# EAGLE library part CAT24C32WI-GT3 (library Memory)
IC EEPROM 32K I2C 1MHZ 8SOIC Manufacturer's datasheet <https://www.onsemi.com/pub/Collateral/CAT24C32-D.PDF>
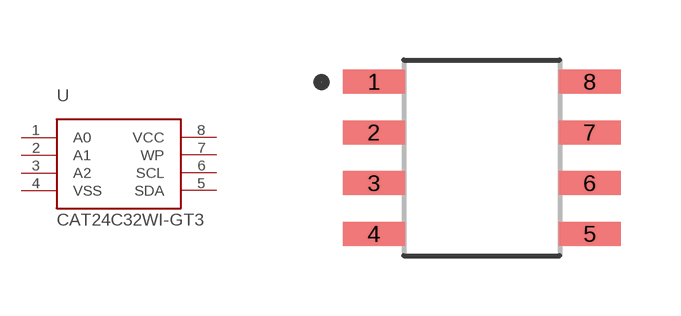
[diagram p11: symbol with the pads of SOIC8; footprint SOIC8]

Designator prefix U

## CAT24C32WI-GT3 (CREATED_BY: PCBLayout.com; DIGIKEY_PART_NUMBER: CAT24C32WI-GT3CT-ND; MANUFACTURER: ON Semiconductor; MPN: CAT24C32WI-GT3; PACKAGE: SOIC-8)  [SOIC8]
1  A0  in
2  A1  in
3  A2  in
4  VSS  pwr
5  SDA
6  SCL  in
7  WP  in
8  VCC  pwr

## Footprint SOIC8 (pad centres in mm)
smd 1.55 x 0.6: 1 -2.7,1.905; 2 -2.7,0.635; 3 -2.7,-0.635; 4 -2.7,-1.905; 5 2.7,-1.905; 6 2.7,-0.635; 7 2.7,0.635; 8 2.7,1.905